# EAGLE library part P4-INDUSTRIAL-OUTPUT-MODULE (library LEAP)
Phase IV Engineering - LEAP Industrial Output Module. Placeholder for 4-20mA and vout modules.
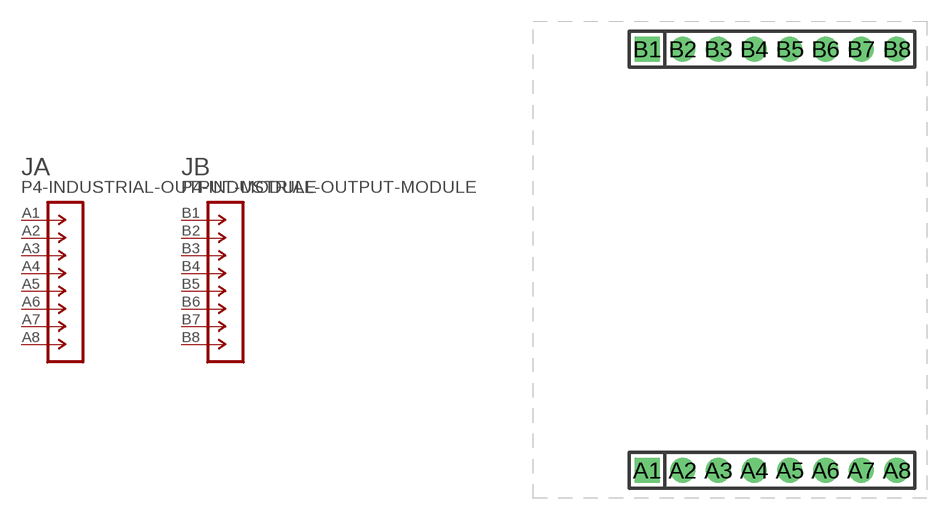
[diagram p0: symbol with the pads of P4-SENSE-MODULE-30MM; footprint P4-SENSE-MODULE-30MM]

Designator prefix J; gates A=M1X08 B=M1X08

## P4-INDUSTRIAL-OUTPUT-MODULE-30MM (FUNCTION: 4-20mA)  [P4-SENSE-MODULE-30MM]
A1  A:1  pas
A2  A:2  pas
A3  A:3  pas
A4  A:4  pas
A5  A:5  pas
A6  A:6  pas
A7  A:7  pas
A8  A:8  pas
B1  B:1  pas
B2  B:2  pas
B3  B:3  pas
B4  B:4  pas
B5  B:5  pas
B6  B:6  pas
B7  B:7  pas
B8  B:8  pas

## Footprint P4-SENSE-MODULE-30MM (pad centres in mm)
Industrial Sensor Output Module
drill 1.016 pad 1.778 square: A1 0,-30; B1 0,0
drill 1.016 pad 1.778: A2 2.54,-30; A3 5.08,-30; A4 7.62,-30; A5 10.16,-30; A6 12.7,-30; A7 15.24,-30; A8 17.78,-30; B2 2.54,0; B3 5.08,0; B4 7.62,0; B5 10.16,0; B6 12.7,0; B7 15.24,0; B8 17.78,0